# EAGLE library part TLE6250GV33 (library MDB_HOMEBAK)
CAN transceiver 3,3V
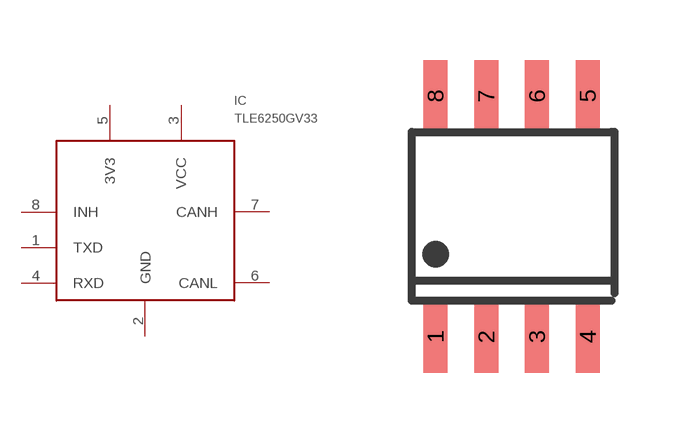
[diagram p18: symbol with the pads of PG-DSO-8; footprint PG-DSO-8]

Designator prefix IC

## TLE6250GV33_DSO8  [PG-DSO-8]
1  TXD
2  GND
3  VCC
4  RXD
5  3V3
6  CANL
7  CANH
8  INH

## Footprint PG-DSO-8 (pad centres in mm)
smd 0.6 x 1.8: 1 -1.91,-3.01; 2 -0.64,-3.01; 3 0.63,-3.01; 4 1.9,-3.01; 5 1.9,3.015; 6 0.63,3.015; 7 -0.64,3.015; 8 -1.91,3.015